# EAGLE library part 87759-46 (library untitled)
HEADER
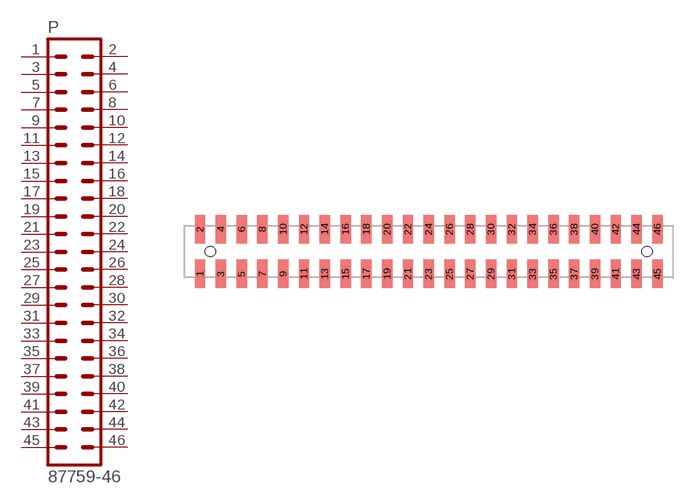
[diagram p134: symbol with the pads of 87759-46; footprint 87759-46]

Designator prefix P

## 87759-46  [87759-46]
1  1  pas
2  2  pas
3  3  pas
4  4  pas
5  5  pas
6  6  pas
7  7  pas
8  8  pas
9  9  pas
10  10  pas
11  11  pas
12  12  pas
13  13  pas
14  14  pas
15  15  pas
16  16  pas
17  17  pas
18  18  pas
19  19  pas
20  20  pas
21  21  pas
22  22  pas
23  23  pas
24  24  pas
25  25  pas
26  26  pas
27  27  pas
28  28  pas
29  29  pas
30  30  pas
31  31  pas
32  32  pas
33  33  pas
34  34  pas
35  35  pas
36  36  pas
37  37  pas
38  38  pas
39  39  pas
40  40  pas
41  41  pas
42  42  pas
43  43  pas
44  44  pas
45  45  pas
46  46  pas

## Footprint 87759-46 (pad centres in mm)
HEADER SMD Dual Row, Vertical
smd 1 x 2.75: 1 -22,-2.15; 2 -22,2.15; 3 -20,-2.15; 4 -20,2.15; 5 -18,-2.15; 6 -18,2.15; 7 -16,-2.15; 8 -16,2.15; 9 -14,-2.15; 10 -14,2.15; 11 -12,-2.15; 12 -12,2.15; 13 -10,-2.15; 14 -10,2.15; 15 -8,-2.15; 16 -8,2.15; 17 -6,-2.15; 18 -6,2.15; 19 -4,-2.15; 20 -4,2.15; 21 -2,-2.15; 22 -2,2.15; 23 0,-2.15; 24 0,2.15; 25 2,-2.15; 26 2,2.15; 27 4,-2.15; 28 4,2.15; 29 6,-2.15; 30 6,2.15; 31 8,-2.15; 32 8,2.15; 33 10,-2.15; 34 10,2.15; 35 12,-2.15; 36 12,2.15; 37 14,-2.15; 38 14,2.15; 39 16,-2.15; 40 16,2.15; 41 18,-2.15; 42 18,2.15; 43 20,-2.15; 44 20,2.15; 45 22,-2.15; 46 22,2.15
hole 1 at -21,0
hole 1 at 21,0